# Altium integrated library LM2621.IntLib: 34 symbols
Pins are listed as number, name and electrical type; pins without a type are passive.

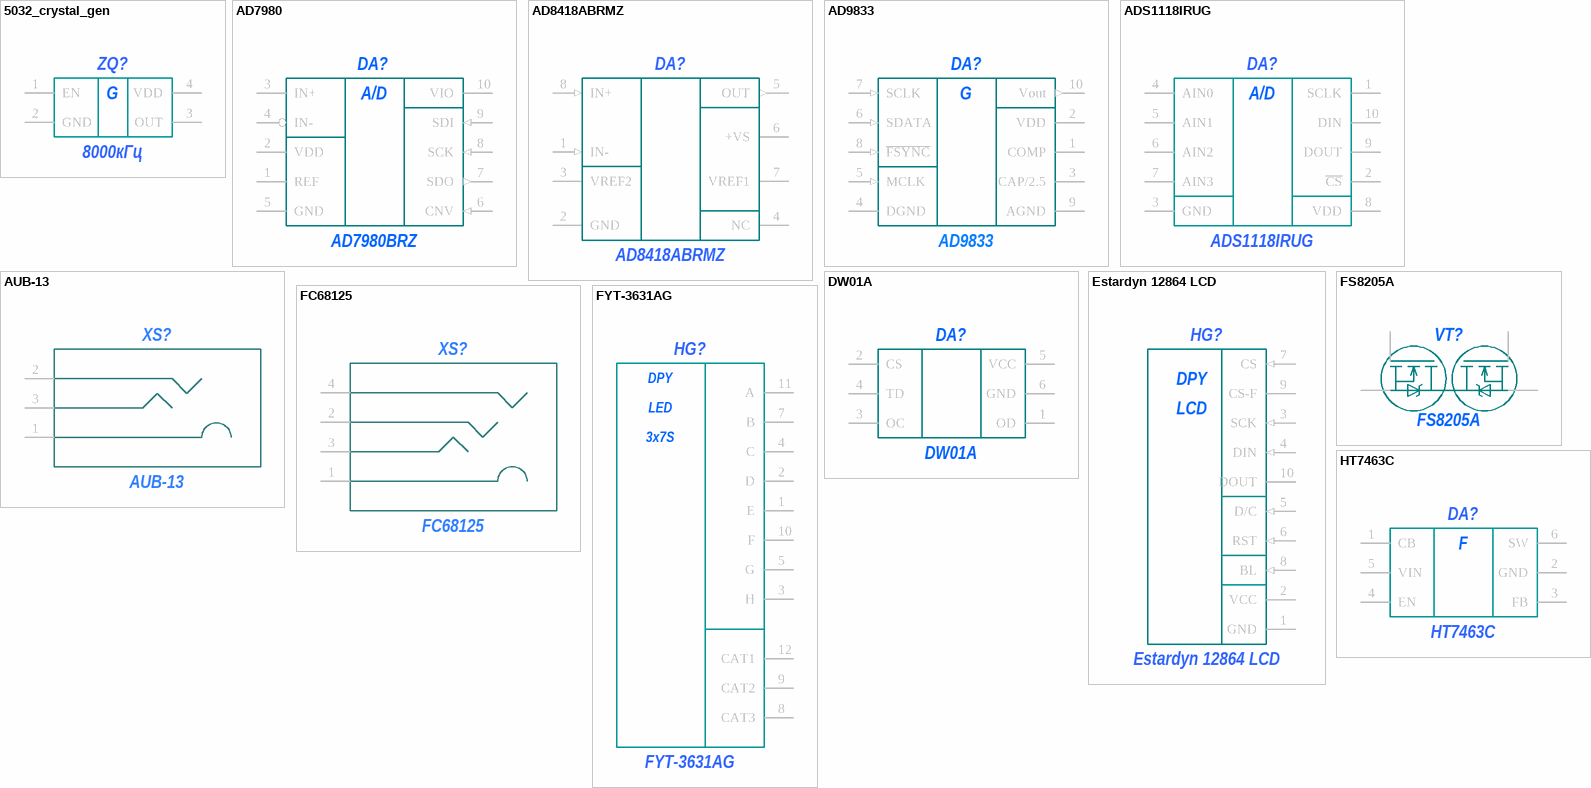
[diagram p0: symbols 5032_crystal_gen to HT7463C]

## 5032_crystal_gen
designator ZQ?, comment 8000кГц  function: G
footprint 5032_crystal_gen
pins: 1 EN, 2 GND, 3 OUT, 4 VDD

## AD7980
designator DA?, comment AD7980BRZ  Function: A/D
footprint TSSOP50P490X110-10N (TSSOP, 10-Leads, Body 3,00x3,00mm, Pitch 0,50mm, IPC Medium Density)
pins: 1 REF, 2 VDD (power), 3 IN+, 4 IN-, 5 GND (power), 6 CNV (in), 7 SDO (out), 8 SCK (in), 9 SDI (in), 10 VIO (power)

## AD8418ABRMZ
designator DA?
footprint TSOP65P490X75-8N (TSOP, 8-Leads, Body 3,00x3,00mm, Pitch 0,65mm, IPC Medium Density)
footprint SOIC127P600X175-8M (SOIC, 8-Leads, Body 4,90x3,90mm, Pitch 1,27mm, IPC Low Density)
pins: 1 IN- (in), 2 GND, 3 VREF2, 4 NC, 5 OUT (out), 6 +VS (power), 7 VREF1, 8 IN+ (in)

## AD9833
designator DA?  Func: G
footprint TSSOP50P490X110-10N (TSSOP, 10-Leads, Body 3,00x3,00mm, Pitch 0,50mm, IPC Medium Density)
pins: 1 COMP, 2 VDD (power), 3 CAP/2.5, 4 DGND (power), 5 MCLK (in), 6 SDATA (in), 7 SCLK (in), 8 ~{FSYNC} (in), 9 AGND (power), 10 Vout (out)

## ADS1118IRUG
designator DA?  Function: A/D
footprint QFN50P150X200X40-10N (QFN, 10-Leads, Body 1,50x2,00mm, Pitch 0,50mm, IPC Medium Density)
footprint TSSOP50P490X110-10N (TSSOP, 10-Leads, Body 3,00x3,00mm, Pitch 0,50mm, IPC Medium Density)
pins: 1 SCLK, 2 ~{CS}, 3 GND, 4 AIN0, 5 AIN1, 6 AIN2, 7 AIN3, 8 VDD, 9 DOUT, 10 DIN

## AUB-13
designator XS?
footprint AUB-13
pins: 1 (power), 2 (power), 3 (power)

## DW01A
designator DA?
Func: *
footprint SOT95P280X135-6N (SOT23, 6-Leads, Body 2,85x2,80mm, Pitch 0,95mm, IPC Medium Density)
pins: 1 OD, 2 CS, 3 OC, 4 TD, 5 VCC, 6 GND

## Estardyn 12864 LCD
designator HG?  function2: LCD  function1: DPY
footprint Estardyn 12864 LCD
pins: 1 GND (power), 2 VCC, 3 SCK (in), 4 DIN (in), 5 D/C (in), 6 RST (in), 7 CS (in), 8 BL (in), 9 CS-F, 10 DOUT

## FC68125
designator XS?
footprint FC68125
pins: 1 4 (power), 2 4 (power), 3 2 (power), 4 5 (power)

## FS8205A
designator VT?
footprint SOP127P600-8N1
pins: 1 8, 2 7, 4 GND, 5 GND, 6

## FYT-3631AG
designator HG?
footprint FYT-3631AG
pins: 1 E, 2 D, 3 H, 4 C, 5 G, 7 B, 8 CAT3, 9 CAT2, 10 F, 11 A, 12 CAT1
text: DPY; LED; 3x7S

## HT7463C
designator DA?  function: F
footprint SOT95P270X145-6N (SOT23, 6-Leads, Body 2,90x2,70mm, Pitch 0,95mm, IPC Medium Density)
pins: 1 CB, 2 GND, 3 FB, 4 EN, 5 VIN, 6 SW

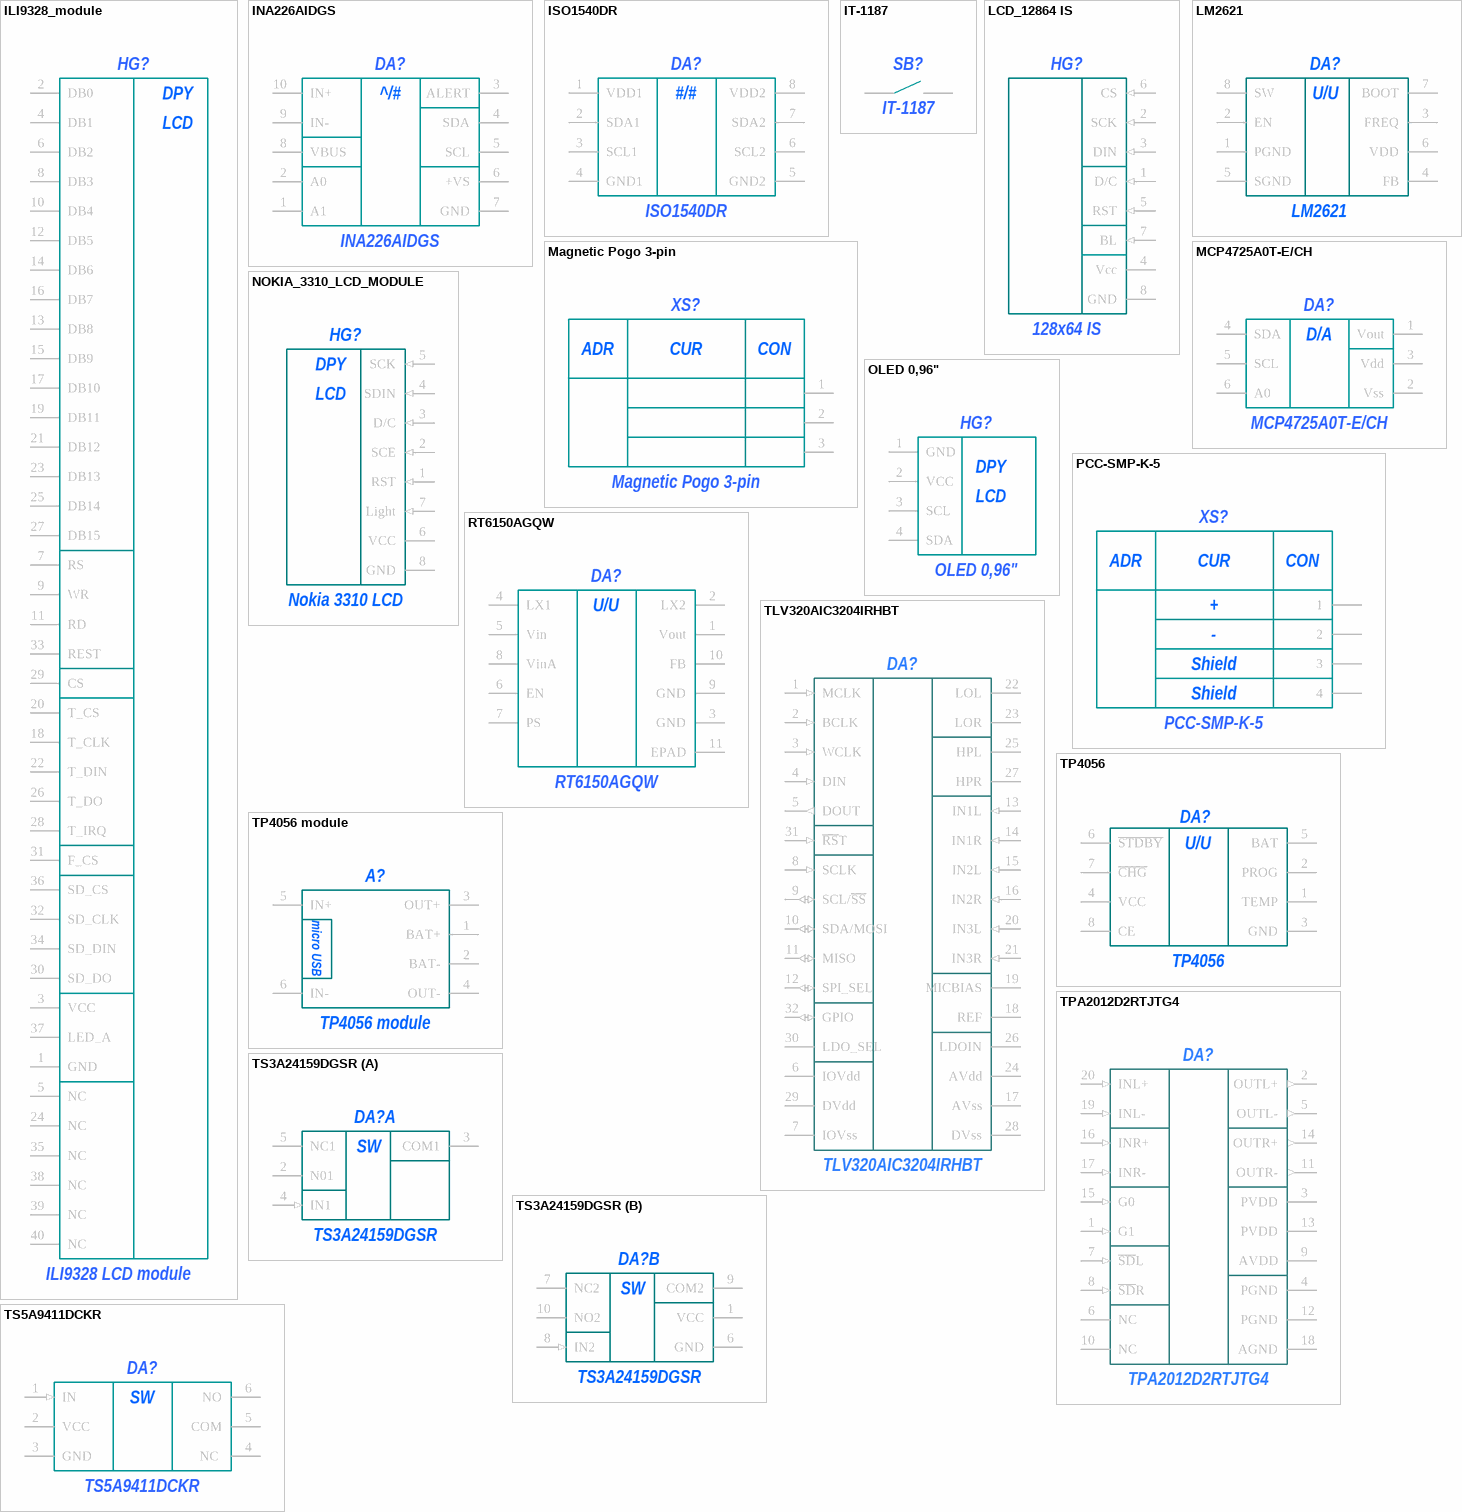
[diagram p1: symbols ILI9328_module to TS5A9411DCKR]

## ILI9328_module
designator HG?, comment ILI9328 LCD module  function1: DPY  function2: LCD
footprint ILI9328_module
pins: 1 GND, 2 DB0, 3 VCC, 4 DB1, 5 NC, 6 DB2, 7 RS, 8 DB3, 9 WR, 10 DB4, 11 RD, 12 DB5, 13 DB8, 14 DB6, 15 DB9, 16 DB7, 17 DB10, 18 T_CLK, 19 DB11, 20 T_CS, 21 DB12, 22 T_DIN, 23 DB13, 24 NC, 25 DB14, 26 T_DO, 27 DB15, 28 T_IRQ, 29 CS, 30 SD_DO, 31 F_CS, 32 SD_CLK, 33 REST, 34 SD_DIN, 35 NC, 36 SD_CS, 37 LED_A, 38 NC, 39 NC, 40 NC

## INA226AIDGS
designator DA?  Function: ^/#
footprint TSSOP50P490X110-10N (TSSOP, 10-Leads, Body 3,00x3,00mm, Pitch 0,50mm, IPC Medium Density)
pins: 1 A1, 2 A0, 3 ALERT, 4 SDA, 5 SCL, 6 +VS, 7 GND, 8 VBUS, 9 IN-, 10 IN+

## ISO1540DR
designator DA?  Function: #/#
footprint SOIC127P600X175-8M (SOIC, 8-Leads, Body 4,90x3,90mm, Pitch 1,27mm, IPC Low Density)
pins: 1 VDD1, 2 SDA1, 3 SCL1, 4 GND1, 5 GND2, 6 SCL2, 7 SDA2, 8 VDD2

## IT-1187
designator SB?
footprint IT-1187
pins: 1, 2, 3, 4

## LCD_12864 IS
designator HG?, comment 128x64 IS
footprint LCD 128x64 IS
pins: 1 D/C (in), 2 SCK (in), 3 DIN (in), 4 Vcc, 5 RST (in), 6 CS (in), 7 BL (in), 8 GND (power)

## LM2621
designator DA?
footprint LM2621 (TSOP, 8-Leads, Body 3,00x3,00mm, Pitch 0,65mm, IPC Medium Density)
pins: 1 PGND, 2 EN, 3 FREQ, 4 FB, 5 SGND, 6 VDD, 7 BOOT, 8 SW
text: U/U

## Magnetic Pogo 3-pin
designator XS?
ADR: *; pn1: *; pn2: *; pn3: *
footprint Magnetic Pogo 3-pin_VERT
footprint Magnetic Pogo 3-pin_HOR
pins: 1, 2, 3
text: ADR; CUR; CON

## MCP4725A0T-E/CH
designator DA?  Function: D/A
footprint SOT95P270X145-6N (SOT23, 6-Leads, Body 2,90x2,70mm, Pitch 0,95mm, IPC Medium Density)
pins: 1 Vout, 2 Vss, 3 Vdd, 4 SDA, 5 SCL, 6 A0

## NOKIA_3310_LCD_MODULE
designator HG?, comment Nokia 3310 LCD  Function1: DPY  Function2: LCD
footprint Nokia 3310 LCD
pins: 1 RST (in), 2 SCE (in), 3 D/C (in), 4 SDIN (in), 5 SCK (in), 6 VCC, 7 Light (in), 8 GND (power)

## OLED 0,96"
designator HG?  Func1: DPY  Func2: LCD
footprint OLED 0,96"
pins: 1 GND, 2 VCC, 3 SCL, 4 SDA

## PCC-SMP-K-5
designator XS?  pn1: +  pn3: Shield
ADR: *; pn2: -; pn4: Shield
footprint PCC-SMP-K-5
pins: 1, 2, 3, 4
text: ADR; CUR; CON

## RT6150AGQW
designator DA?  function: U/U
footprint SON50P300X80_HS-11N (SON, 10-Leads, Body 3,00x3,00mm, Pitch 0,50mm, Thermal Pad 2,48x1,63mm, IPC Medium Density)
pins: 1 Vout, 2 LX2, 3 GND, 4 LX1, 5 Vin, 6 EN, 7 PS, 8 VinA, 9 GND, 10 FB, 11 EPAD

## TLV320AIC3204IRHBT
designator DA?
footprint QFN50P500X500X100_HS-33N (QFN, 32-Leads, Body 5,00x5,00mm, Pitch 0,50mm, Thermal Pad 3,45x3,40mm, IPC Medium Density)
pins: 1 MCLK (in), 2 BCLK (in), 3 WCLK (in), 4 DIN (in), 5 DOUT (out), 6 IOVdd (power), 7 IOVss (power), 8 SCLK (in), 9 SCL/~{SS} (io), 10 SDA/MOSI (io), 11 MISO (io), 12 SPI_SEL (io), 13 IN1L (in), 14 IN1R (in), 15 IN2L (in), 16 IN2R (in), 17 AVss (power), 18 REF, 19 MICBIAS, 20 IN3L (in), 21 IN3R (in), 22 LOL, 23 LOR, 24 AVdd (power), 25 HPL, 26 LDOIN (power), 27 HPR, 28 DVss (power), 29 DVdd (power), 30 LDO_SEL (oc), 31 ~{RS}T (in), 32 GPIO (io), 33 PAD hidden

## TP4056
designator DA?  Func: U/U
footprint SOP127P600-8N
pins: 1 TEMP, 2 PROG, 3 GND (power), 4 VCC (power), 5 BAT, 6 ~{STDBY}, 7 ~{CHG}, 8 CE, 9 hidden to GND

## TP4056 module
designator A?
footprint TP4056 module
pins: 1 BAT+, 2 BAT-, 3 OUT+, 4 OUT-, 5 IN+, 6 IN-
text: micro USB

## TPA2012D2RTJTG4
designator DA?
footprint QFN50P400X400X80_HS-21N (QFN, 20-Leads, Body 4,00x4,00mm, Pitch 0,50mm, Thermal Pad 2,70x2,70mm, IPC Medium Density)
pins: 1 G1 (in), 2 OUTL+ (out), 3 PVDD (power), 4 PGND (power), 5 OUTL- (out), 6 NC, 7 ~{SD}L (in), 8 ~{SD}R (in), 9 AVDD (power), 10 NC, 11 OUTR- (out), 12 PGND (power), 13 PVDD (power), 14 OUTR+ (out), 15 G0 (in), 16 INR+ (in), 17 INR- (in), 18 AGND (power), 19 INL- (in), 20 INL+ (in), 21 PAD hidden

## TS3A24159DGSR
designator DA?  Function: SW
footprint TSSOP50P490X110-10N (TSSOP, 10-Leads, Body 3,00x3,00mm, Pitch 0,50mm, IPC Medium Density)
part A pins: 2 N01, 3 COM1, 4 IN1 (in), 5 NC1
part B pins: 1 VCC (power), 6 GND (power), 7 NC2, 8 IN2 (in), 9 COM2, 10 NO2

## TS5A9411DCKR
designator DA?  Function: SW
footprint TSOP65P210X110-6N (TSOP, 6-Leads, Body 2,00x1,25mm, Pitch 0,65mm, IPC Medium Density)
pins: 1 IN (in), 2 VCC (power), 3 GND (power), 4 NC , 5 COM, 6 NO

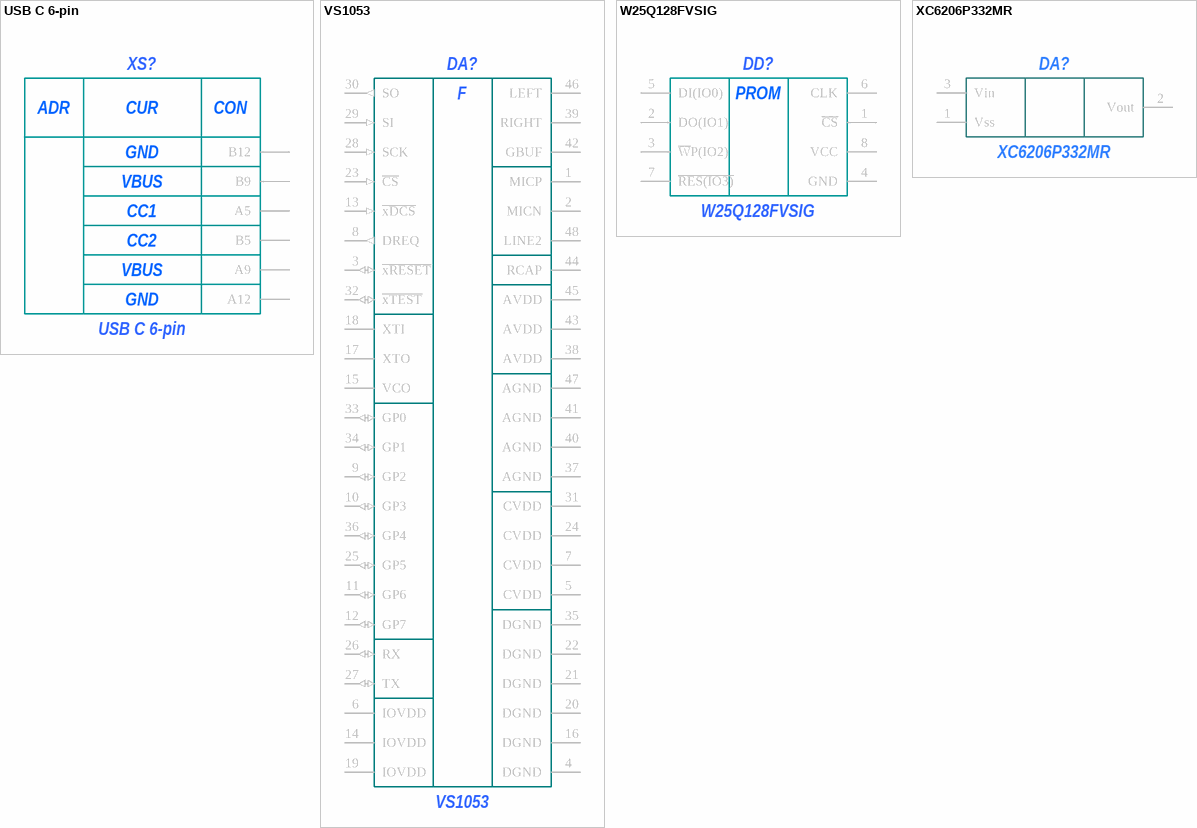
[diagram p2: symbols USB C 6-pin to XC6206P332MR]

## USB C 6-pin
designator XS?
footprint USB C 6-pin
pins: 1 Shield hidden, 2 Shield hidden, 3 Shield hidden, 4 Shield hidden, A5, A9, A12, B5, B9, B12
text: ADR; CUR; CON; GND; VBUS; CC1; CC2

## VS1053
designator DA?  Function: F
footprint SQFP50P900X900X185-48N (SQFP, 48-Leads, Body 7,00x7,00mm, Pitch 0,50mm, IPC Medium Density)
pins: 1 MICP, 2 MICN, 3 ~{xRESET} (io), 4 DGND (power), 5 CVDD (power), 6 IOVDD (power), 7 CVDD (power), 8 DREQ (out), 9 GP2 (io), 10 GP3 (io), 11 GP6 (io), 12 GP7 (io), 13 ~{xDCS} (in), 14 IOVDD (power), 15 VCO, 16 DGND (power), 17 XTO, 18 XTI, 19 IOVDD (power), 20 DGND (power), 21 DGND (power), 22 DGND (power), 23 ~{CS} (in), 24 CVDD (power), 25 GP5 (io), 26 RX (io), 27 TX (io), 28 SCK (in), 29 SI (in), 30 SO (out), 31 CVDD (power), 32 ~{xTEST} (io), 33 GP0 (io), 34 GP1 (io), 35 DGND (power), 36 GP4 (io), 37 AGND (power), 38 AVDD (power), 39 RIGHT, 40 AGND (power), 41 AGND (power), 42 GBUF, 43 AVDD (power), 44 RCAP, 45 AVDD (power), 46 LEFT, 47 AGND (power), 48 LINE2

## W25Q128FVSIG
designator DD?  Parameter 1: PROM
footprint SOIC127P790X216-8M (SOIC, 8-Leads, Body 5,28x5,28mm, Pitch 1,27mm, IPC Low Density)
pins: 1 ~{CS}, 2 DO(IO1), 3 ~{W}P(IO2), 4 GND, 5 DI(IO0), 6 CLK, 7 ~{RES(IO3)}, 8 VCC

## XC6206P332MR
designator DA?
footprint SOT95P245X110-3N (SOT23, 3-Leads, Body 2,90x2,45mm, Pitch 0,95mm, IPC Medium Density)
pins: 1 Vss (power), 2 Vout (power), 3 Vin (power)